# EAGLE library part I2C-SWITCH-8CH-TCA9548A (library FlashPCB_ICs)
TCA9548A - IC BUS SWITCH 1 X 8:1 Technical Specifications: 1-to-8 Bidirectional translating switches I2C and SMBus compatible Allows translation between 1.8V, 2.5V, 3.3V, 5V buses Operating Supply Voltage: 1.65V~5.5V Component Search: TCA9548A <https://www.flashpcb.com/components> Datasheet: TCA9548A Low-Voltage 8-Channel I2C Switch with Reset datasheet (Rev. G) <https://www.ti.com/lit/ds/symlink/tca9548a.pdf?HQS=dis-dk-null-digikeymode-dsf-pf-null-wwe&ts=1681812568702&ref_url=https%253A%252F%252Fwww.ti.com%252Fgeneral%252Fdocs%252Fsuppproductinfo.tsp%253FdistId%253D10%2526gotoUrl%253Dhttps%253A%252F%252Fwww.ti.com%252Flit%252Fgpn%252Ftca9548a>
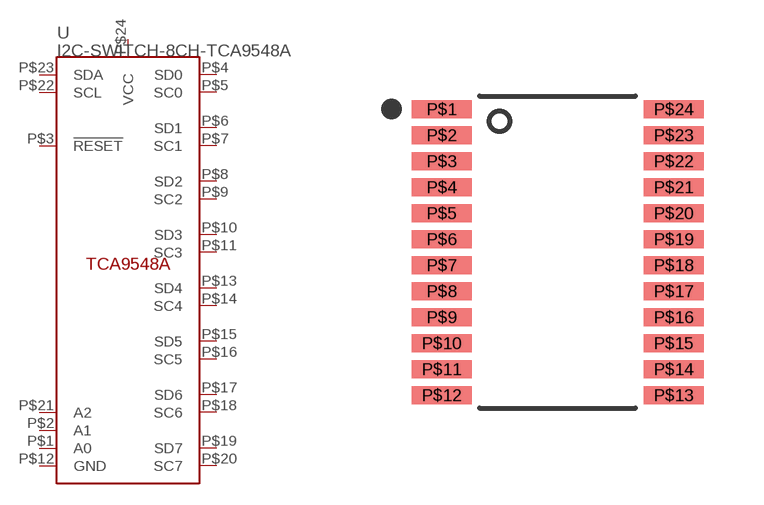
[diagram p49: symbol with the pads of TSSOP-24; footprint TSSOP-24]

Designator prefix U

## I2C-SWITCH-8CH-TCA9548APWR  [TSSOP-24]
P$1  A0
P$2  A1
P$3  !RESET!
P$4  SD0
P$5  SC0
P$6  SD1
P$7  SC1
P$8  SD2
P$9  SC2
P$10  SD3
P$11  SC3
P$12  GND
P$13  SD4
P$14  SC4
P$15  SD5
P$16  SC5
P$17  SD6
P$18  SC6
P$19  SD7
P$20  SC7
P$21  A2
P$22  SCL
P$23  SDA
P$24  VCC

## Footprint TSSOP-24 (pad centres in mm)
smd 1.5 x 0.45: P$1 -2.9,3.575; P$2 -2.9,2.925; P$3 -2.9,2.275; P$4 -2.9,1.625; P$5 -2.9,0.975; P$6 -2.9,0.325; P$7 -2.9,-0.325; P$8 -2.9,-0.975; P$9 -2.9,-1.625; P$10 -2.9,-2.275; P$11 -2.9,-2.925; P$12 -2.9,-3.575; P$13 2.9,-3.575; P$14 2.9,-2.925; P$15 2.9,-2.275; P$16 2.9,-1.625; P$17 2.9,-0.975; P$18 2.9,-0.325; P$19 2.9,0.325; P$20 2.9,0.975; P$21 2.9,1.625; P$22 2.9,2.275; P$23 2.9,2.925; P$24 2.9,3.575